# EAGLE library part AD8221ARMZ (library (common)-parts-that-we-use)
Precision Instrumentation Amplifier
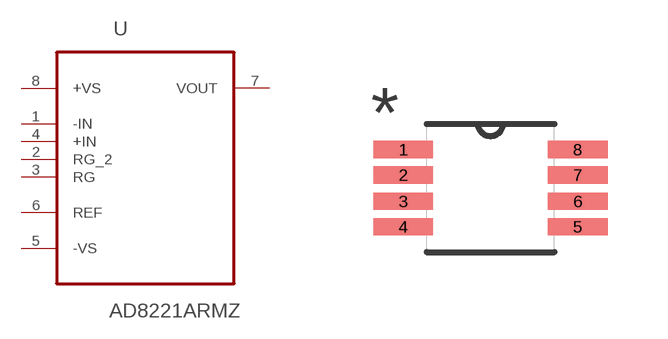
[diagram p3: symbol with the pads of SOP65P490X110-8N; footprint SOP65P490X110-8N]

Designator prefix U

## AD8221ARMZ (MPN: AD8221ARMZ; OC_FARNELL: 1581948; OC_NEWARK: 19M0946; PACKAGE: MSOP-8; SUPPLIER: Analog Devices)  [SOP65P490X110-8N]
1  -IN  in
2  RG_2  in
3  RG  in
4  +IN  in
5  -VS  pwr
6  REF  pas
7  VOUT  out
8  +VS  pwr

## Footprint SOP65P490X110-8N (pad centres in mm)
smd 1.499 x 0.432: 1 -2.184,0.965; 2 -2.184,0.33; 3 -2.184,-0.33; 4 -2.184,-0.965; 5 2.184,-0.965; 6 2.184,-0.33; 7 2.184,0.33; 8 2.184,0.965